# Altium integrated library Wuerth Elektronik SMD Power Choke.IntLib: 844 symbols (part 2 of 9)
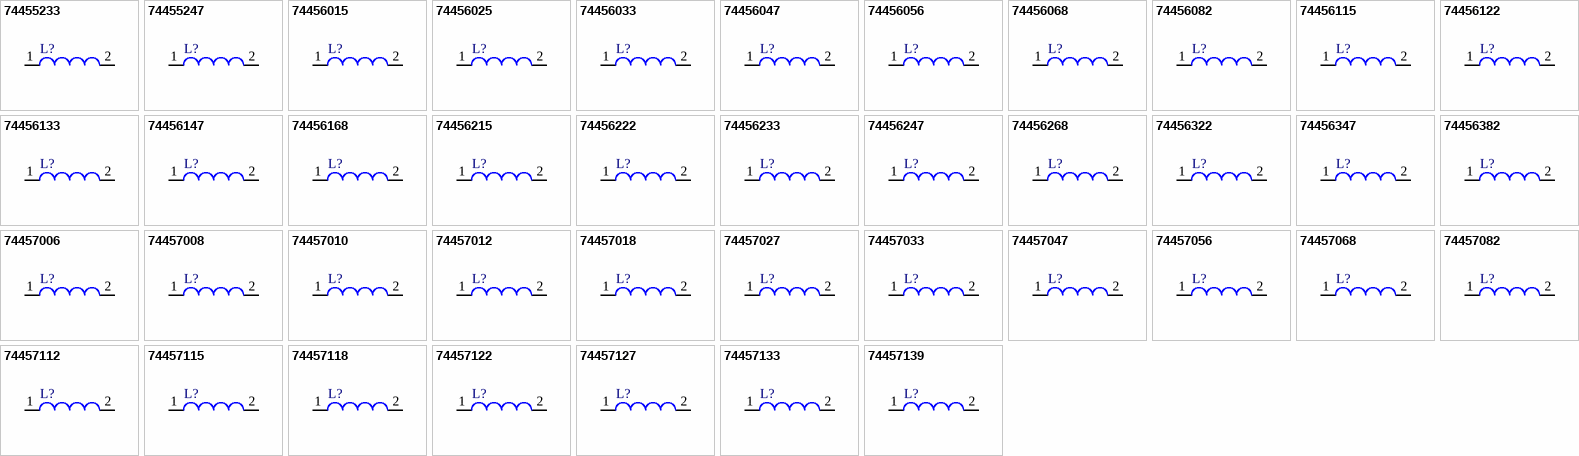
[diagram p23: symbols 74455233 to 74457139]

## 74456222
designator L?
SMD-Power Inductor WE-PD4, L = 220 µH; Inductance: 220 µH; DatasheetVersion: ver 2, Sep-2006; PackageVersion: 2006; PackageReference: WE-PD4-L; PackageDescription: SMD Inductor, 2-Leads, Body 12.7 x 10.0 mm; ComponentLink1Description: Manufacturer URL; ComponentLink1URL: http://www.we-online.com; ComponentLink2Description: Datasheet; ComponentLink2URL: http://www.we-online.de/katalog/media/pdf/74456222.pdf
footprint WE-PD4-L (SMD Inductor, 2-Leads, Body 12.7x10.0x5.3 mm)
pins: 1, 2

## 74456233
designator L?
SMD-Power Inductor WE-PD4, L = 330 µH; Inductance: 330 µH; DatasheetVersion: ver 2, Sep-2006; PackageVersion: 2006; PackageReference: WE-PD4-L; PackageDescription: SMD Inductor, 2-Leads, Body 12.7 x 10.0 mm; ComponentLink1Description: Manufacturer URL; ComponentLink1URL: http://www.we-online.com; ComponentLink2Description: Datasheet; ComponentLink2URL: http://www.we-online.de/katalog/media/pdf/74456233.pdf
footprint WE-PD4-L (SMD Inductor, 2-Leads, Body 12.7x10.0x5.3 mm)
pins: 1, 2

## 74456247
designator L?
SMD-Power Inductor WE-PD4, L = 470 µH; Inductance: 470 µH; DatasheetVersion: ver 2, Sep-2006; PackageVersion: 2006; PackageReference: WE-PD4-L; PackageDescription: SMD Inductor, 2-Leads, Body 12.7 x 10.0 mm; ComponentLink1Description: Manufacturer URL; ComponentLink1URL: http://www.we-online.com; ComponentLink2Description: Datasheet; ComponentLink2URL: http://www.we-online.de/katalog/media/pdf/74456247.pdf
footprint WE-PD4-L (SMD Inductor, 2-Leads, Body 12.7x10.0x5.3 mm)
pins: 1, 2

## 74456268
designator L?
SMD-Power Inductor WE-PD4, L = 680 µH; Inductance: 680 µH; DatasheetVersion: ver 2, Sep-2006; PackageVersion: 2006; PackageReference: WE-PD4-L; PackageDescription: SMD Inductor, 2-Leads, Body 12.7 x 10.0 mm; ComponentLink1Description: Manufacturer URL; ComponentLink1URL: http://www.we-online.com; ComponentLink2Description: Datasheet; ComponentLink2URL: http://www.we-online.de/katalog/media/pdf/74456268.pdf
footprint WE-PD4-L (SMD Inductor, 2-Leads, Body 12.7x10.0x5.3 mm)
pins: 1, 2

## 74456322
designator L?
SMD-Power Inductor WE-PD4, L = 2200 µH; Inductance: 2200 µH; DatasheetVersion: ver 2, Sep-2006; PackageVersion: 2006; PackageReference: WE-PD4-L; PackageDescription: SMD Inductor, 2-Leads, Body 12.7 x 10.0 mm; ComponentLink1Description: Manufacturer URL; ComponentLink1URL: http://www.we-online.com; ComponentLink2Description: Datasheet; ComponentLink2URL: http://www.we-online.de/katalog/media/pdf/74456322.pdf
footprint WE-PD4-L (SMD Inductor, 2-Leads, Body 12.7x10.0x5.3 mm)
pins: 1, 2

## 74456347
designator L?
SMD-Power Inductor WE-PD4, L = 4700 µH; Inductance: 4700 µH; DatasheetVersion: ver 2, Sep-2006; PackageVersion: 2006; PackageReference: WE-PD4-L; PackageDescription: SMD Inductor, 2-Leads, Body 12.7 x 10.0 mm; ComponentLink1Description: Manufacturer URL; ComponentLink1URL: http://www.we-online.com; ComponentLink2Description: Datasheet; ComponentLink2URL: http://www.we-online.de/katalog/media/pdf/74456347.pdf
footprint WE-PD4-L (SMD Inductor, 2-Leads, Body 12.7x10.0x5.3 mm)
pins: 1, 2

## 74456382
designator L?
SMD-Power Inductor WE-PD4, L = 8200 µH; Inductance: 8200 µH; DatasheetVersion: ver 2, Sep-2006; PackageVersion: 2006; PackageReference: WE-PD4-L; PackageDescription: SMD Inductor, 2-Leads, Body 12.7 x 10.0 mm; ComponentLink1Description: Manufacturer URL; ComponentLink1URL: http://www.we-online.com; ComponentLink2Description: Datasheet; ComponentLink2URL: http://www.we-online.de/katalog/media/pdf/74456382.pdf
footprint WE-PD4-L (SMD Inductor, 2-Leads, Body 12.7x10.0x5.3 mm)
pins: 1, 2

## 74457006
designator L?
SMD-Power Inductor WE-PD4, L = 0.47 µH; Inductance: 0.47 µH; DatasheetVersion: ver 1, Oct-2004; PackageVersion: 2004; PackageReference: WE-PD4-XL; PackageDescription: SMD Inductor, 2-Leads, Body 22.0 x 15.0 mm; ComponentLink1Description: Manufacturer URL; ComponentLink1URL: http://www.we-online.com; ComponentLink2Description: Datasheet; ComponentLink2URL: http://www.we-online.de/katalog/media/pdf/74457006.pdf
footprint WE-PD4-XL (SMD Inductor, 2-Leads, Body 22.0x15.0x7.8 mm)
pins: 1, 2

## 74457008
designator L?
SMD-Power Inductor WE-PD4, L = 0.80 µH; Inductance: 0.80 µH; DatasheetVersion: ver 1, Oct-2004; PackageVersion: 2004; PackageReference: WE-PD4-XL; PackageDescription: SMD Inductor, 2-Leads, Body 22.0 x 15.0 mm; ComponentLink1Description: Manufacturer URL; ComponentLink1URL: http://www.we-online.com; ComponentLink2Description: Datasheet; ComponentLink2URL: http://www.we-online.de/katalog/media/pdf/74457008.pdf
footprint WE-PD4-XL (SMD Inductor, 2-Leads, Body 22.0x15.0x7.8 mm)
pins: 1, 2

## 74457010
designator L?
SMD-Power Inductor WE-PD4, L = 1.00 µH; Inductance: 1.00 µH; DatasheetVersion: ver 1, Oct-2004; PackageVersion: 2004; PackageReference: WE-PD4-XL; PackageDescription: SMD Inductor, 2-Leads, Body 22.0 x 15.0 mm; ComponentLink1Description: Manufacturer URL; ComponentLink1URL: http://www.we-online.com; ComponentLink2Description: Datasheet; ComponentLink2URL: http://www.we-online.de/katalog/media/pdf/74457010.pdf
footprint WE-PD4-XL (SMD Inductor, 2-Leads, Body 22.0x15.0x7.8 mm)
pins: 1, 2

## 74457012
designator L?
SMD-Power Inductor WE-PD4, L = 1.20 µH; Inductance: 1.20 µH; DatasheetVersion: ver 1, Oct-2004; PackageVersion: 2004; PackageReference: WE-PD4-XL; PackageDescription: SMD Inductor, 2-Leads, Body 22.0 x 15.0 mm; ComponentLink1Description: Manufacturer URL; ComponentLink1URL: http://www.we-online.com; ComponentLink2Description: Datasheet; ComponentLink2URL: http://www.we-online.de/katalog/media/pdf/74457012.pdf
footprint WE-PD4-XL (SMD Inductor, 2-Leads, Body 22.0x15.0x7.8 mm)
pins: 1, 2

## 74457018
designator L?
SMD-Power Inductor WE-PD4, L = 1.80 µH; Inductance: 1.80 µH; DatasheetVersion: ver 1, Oct-2004; PackageVersion: 2004; PackageReference: WE-PD4-XL; PackageDescription: SMD Inductor, 2-Leads, Body 22.0 x 15.0 mm; ComponentLink1Description: Manufacturer URL; ComponentLink1URL: http://www.we-online.com; ComponentLink2Description: Datasheet; ComponentLink2URL: http://www.we-online.de/katalog/media/pdf/74457018.pdf
footprint WE-PD4-XL (SMD Inductor, 2-Leads, Body 22.0x15.0x7.8 mm)
pins: 1, 2

## 74457027
designator L?
SMD-Power Inductor WE-PD4, L = 2.70 µH; Inductance: 2.70 µH; DatasheetVersion: ver 1, Oct-2004; PackageVersion: 2004; PackageReference: WE-PD4-XL; PackageDescription: SMD Inductor, 2-Leads, Body 22.0 x 15.0 mm; ComponentLink1Description: Manufacturer URL; ComponentLink1URL: http://www.we-online.com; ComponentLink2Description: Datasheet; ComponentLink2URL: http://www.we-online.de/katalog/media/pdf/74457027.pdf
footprint WE-PD4-XL (SMD Inductor, 2-Leads, Body 22.0x15.0x7.8 mm)
pins: 1, 2

## 74457033
designator L?
SMD-Power Inductor WE-PD4, L = 3.30 µH; Inductance: 3.30 µH; DatasheetVersion: ver 1, Oct-2004; PackageVersion: 2004; PackageReference: WE-PD4-XL; PackageDescription: SMD Inductor, 2-Leads, Body 22.0 x 15.0 mm; ComponentLink1Description: Manufacturer URL; ComponentLink1URL: http://www.we-online.com; ComponentLink2Description: Datasheet; ComponentLink2URL: http://www.we-online.de/katalog/media/pdf/74457033.pdf
footprint WE-PD4-XL (SMD Inductor, 2-Leads, Body 22.0x15.0x7.8 mm)
pins: 1, 2

## 74457047
designator L?
SMD-Power Inductor WE-PD4, L = 4.70 µH; Inductance: 4.70 µH; DatasheetVersion: ver 1, Oct-2004; PackageVersion: 2004; PackageReference: WE-PD4-XL; PackageDescription: SMD Inductor, 2-Leads, Body 22.0 x 15.0 mm; ComponentLink1Description: Manufacturer URL; ComponentLink1URL: http://www.we-online.com; ComponentLink2Description: Datasheet; ComponentLink2URL: http://www.we-online.de/katalog/media/pdf/74457047.pdf
footprint WE-PD4-XL (SMD Inductor, 2-Leads, Body 22.0x15.0x7.8 mm)
pins: 1, 2

## 74457056
designator L?
SMD-Power Inductor WE-PD4, L = 5.60 µH; Inductance: 5.60 µH; DatasheetVersion: ver 1, Oct-2004; PackageVersion: 2004; PackageReference: WE-PD4-XL; PackageDescription: SMD Inductor, 2-Leads, Body 22.0 x 15.0 mm; ComponentLink1Description: Manufacturer URL; ComponentLink1URL: http://www.we-online.com; ComponentLink2Description: Datasheet; ComponentLink2URL: http://www.we-online.de/katalog/media/pdf/74457056.pdf
footprint WE-PD4-XL (SMD Inductor, 2-Leads, Body 22.0x15.0x7.8 mm)
pins: 1, 2

## 74457068
designator L?
SMD-Power Inductor WE-PD4, L = 6.80 µH; Inductance: 6.80 µH; DatasheetVersion: ver 1, Oct-2004; PackageVersion: 2004; PackageReference: WE-PD4-XL; PackageDescription: SMD Inductor, 2-Leads, Body 22.0 x 15.0 mm; ComponentLink1Description: Manufacturer URL; ComponentLink1URL: http://www.we-online.com; ComponentLink2Description: Datasheet; ComponentLink2URL: http://www.we-online.de/katalog/media/pdf/74457068.pdf
footprint WE-PD4-XL (SMD Inductor, 2-Leads, Body 22.0x15.0x7.8 mm)
pins: 1, 2

## 74457082
designator L?
SMD-Power Inductor WE-PD4, L = 8.20 µH; Inductance: 8.20 µH; DatasheetVersion: ver 1, Oct-2004; PackageVersion: 2004; PackageReference: WE-PD4-XL; PackageDescription: SMD Inductor, 2-Leads, Body 22.0 x 15.0 mm; ComponentLink1Description: Manufacturer URL; ComponentLink1URL: http://www.we-online.com; ComponentLink2Description: Datasheet; ComponentLink2URL: http://www.we-online.de/katalog/media/pdf/74457082.pdf
footprint WE-PD4-XL (SMD Inductor, 2-Leads, Body 22.0x15.0x7.8 mm)
pins: 1, 2

## 74457112
designator L?
SMD-Power Inductor WE-PD4, L = 12.0 µH; Inductance: 12.0 µH; DatasheetVersion: ver 1, Oct-2004; PackageVersion: 2004; PackageReference: WE-PD4-XL; PackageDescription: SMD Inductor, 2-Leads, Body 22.0 x 15.0 mm; ComponentLink1Description: Manufacturer URL; ComponentLink1URL: http://www.we-online.com; ComponentLink2Description: Datasheet; ComponentLink2URL: http://www.we-online.de/katalog/media/pdf/74457112.pdf
footprint WE-PD4-XL (SMD Inductor, 2-Leads, Body 22.0x15.0x7.8 mm)
pins: 1, 2

## 74457115
designator L?
SMD-Power Inductor WE-PD4, L = 15.0 µH; Inductance: 15.0 µH; DatasheetVersion: ver 1, Oct-2004; PackageVersion: 2004; PackageReference: WE-PD4-XL; PackageDescription: SMD Inductor, 2-Leads, Body 22.0 x 15.0 mm; ComponentLink1Description: Manufacturer URL; ComponentLink1URL: http://www.we-online.com; ComponentLink2Description: Datasheet; ComponentLink2URL: http://www.we-online.de/katalog/media/pdf/74457115.pdf
footprint WE-PD4-XL (SMD Inductor, 2-Leads, Body 22.0x15.0x7.8 mm)
pins: 1, 2

## 74457118
designator L?
SMD-Power Inductor WE-PD4, L = 18.0 µH; Inductance: 18.0 µH; DatasheetVersion: ver 1, Oct-2004; PackageVersion: 2004; PackageReference: WE-PD4-XL; PackageDescription: SMD Inductor, 2-Leads, Body 22.0 x 15.0 mm; ComponentLink1Description: Manufacturer URL; ComponentLink1URL: http://www.we-online.com; ComponentLink2Description: Datasheet; ComponentLink2URL: http://www.we-online.de/katalog/media/pdf/74457118.pdf
footprint WE-PD4-XL (SMD Inductor, 2-Leads, Body 22.0x15.0x7.8 mm)
pins: 1, 2

## 74457122
designator L?
SMD-Power Inductor WE-PD4, L = 22.0 µH; Inductance: 22.0 µH; DatasheetVersion: ver 1, Oct-2004; PackageVersion: 2004; PackageReference: WE-PD4-XL; PackageDescription: SMD Inductor, 2-Leads, Body 22.0 x 15.0 mm; ComponentLink1Description: Manufacturer URL; ComponentLink1URL: http://www.we-online.com; ComponentLink2Description: Datasheet; ComponentLink2URL: http://www.we-online.de/katalog/media/pdf/74457122.pdf
footprint WE-PD4-XL (SMD Inductor, 2-Leads, Body 22.0x15.0x7.8 mm)
pins: 1, 2

## 74457127
designator L?
SMD-Power Inductor WE-PD4, L = 27.0 µH; Inductance: 27.0 µH; DatasheetVersion: ver 1, Oct-2004; PackageVersion: 2004; PackageReference: WE-PD4-XL; PackageDescription: SMD Inductor, 2-Leads, Body 22.0 x 15.0 mm; ComponentLink1Description: Manufacturer URL; ComponentLink1URL: http://www.we-online.com; ComponentLink2Description: Datasheet; ComponentLink2URL: http://www.we-online.de/katalog/media/pdf/74457127.pdf
footprint WE-PD4-XL (SMD Inductor, 2-Leads, Body 22.0x15.0x7.8 mm)
pins: 1, 2

## 74457133
designator L?
SMD-Power Inductor WE-PD4, L = 33.0 µH; Inductance: 33.0 µH; DatasheetVersion: ver 1, Oct-2004; PackageVersion: 2004; PackageReference: WE-PD4-XL; PackageDescription: SMD Inductor, 2-Leads, Body 22.0 x 15.0 mm; ComponentLink1Description: Manufacturer URL; ComponentLink1URL: http://www.we-online.com; ComponentLink2Description: Datasheet; ComponentLink2URL: http://www.we-online.de/katalog/media/pdf/74457133.pdf
footprint WE-PD4-XL (SMD Inductor, 2-Leads, Body 22.0x15.0x7.8 mm)
pins: 1, 2

## 74457139
designator L?
SMD-Power Inductor WE-PD4, L = 39.0 µH; Inductance: 39.0 µH; DatasheetVersion: ver 1, Oct-2004; PackageVersion: 2004; PackageReference: WE-PD4-XL; PackageDescription: SMD Inductor, 2-Leads, Body 22.0 x 15.0 mm; ComponentLink1Description: Manufacturer URL; ComponentLink1URL: http://www.we-online.com; ComponentLink2Description: Datasheet; ComponentLink2URL: http://www.we-online.de/katalog/media/pdf/74457139.pdf
footprint WE-PD4-XL (SMD Inductor, 2-Leads, Body 22.0x15.0x7.8 mm)
pins: 1, 2

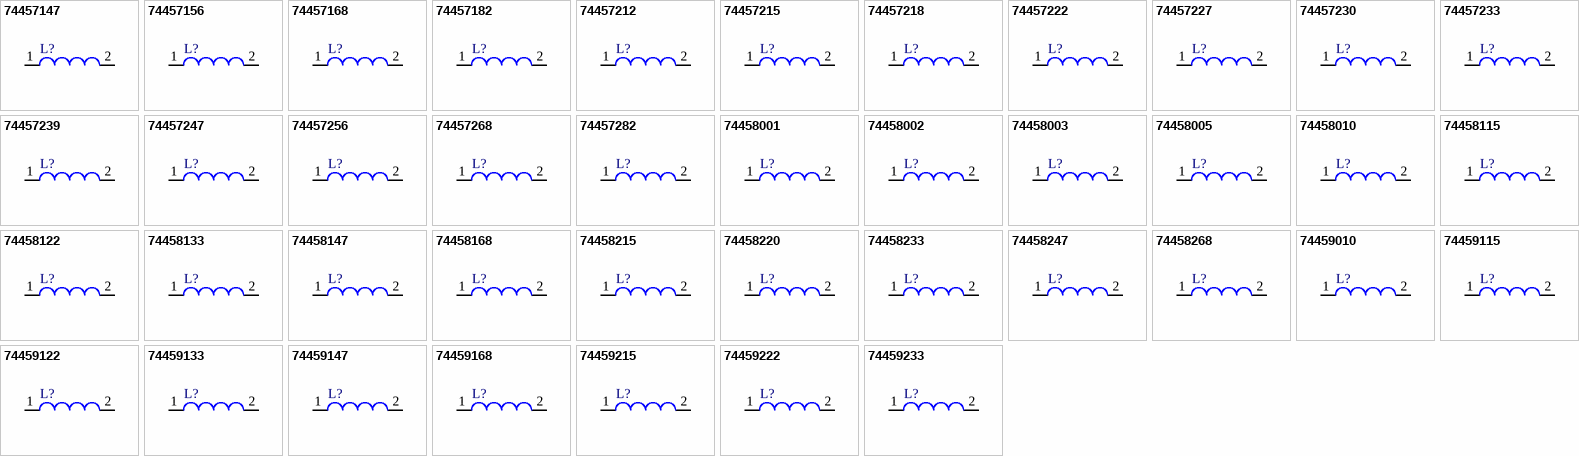
[diagram p3: symbols 74457147 to 74459233]

## 74457147
designator L?
SMD-Power Inductor WE-PD4, L = 47.0 µH; Inductance: 47.0 µH; DatasheetVersion: ver 1, Oct-2004; PackageVersion: 2004; PackageReference: WE-PD4-XL; PackageDescription: SMD Inductor, 2-Leads, Body 22.0 x 15.0 mm; ComponentLink1Description: Manufacturer URL; ComponentLink1URL: http://www.we-online.com; ComponentLink2Description: Datasheet; ComponentLink2URL: http://www.we-online.de/katalog/media/pdf/74457147.pdf
footprint WE-PD4-XL (SMD Inductor, 2-Leads, Body 22.0x15.0x7.8 mm)
pins: 1, 2

## 74457156
designator L?
SMD-Power Inductor WE-PD4, L = 56.0 µH; Inductance: 56.0 µH; DatasheetVersion: ver 1, Oct-2004; PackageVersion: 2004; PackageReference: WE-PD4-XL; PackageDescription: SMD Inductor, 2-Leads, Body 22.0 x 15.0 mm; ComponentLink1Description: Manufacturer URL; ComponentLink1URL: http://www.we-online.com; ComponentLink2Description: Datasheet; ComponentLink2URL: http://www.we-online.de/katalog/media/pdf/74457156.pdf
footprint WE-PD4-XL (SMD Inductor, 2-Leads, Body 22.0x15.0x7.8 mm)
pins: 1, 2

## 74457168
designator L?
SMD-Power Inductor WE-PD4, L = 68.0 µH; Inductance: 68.0 µH; DatasheetVersion: ver 1, Oct-2004; PackageVersion: 2004; PackageReference: WE-PD4-XL; PackageDescription: SMD Inductor, 2-Leads, Body 22.0 x 15.0 mm; ComponentLink1Description: Manufacturer URL; ComponentLink1URL: http://www.we-online.com; ComponentLink2Description: Datasheet; ComponentLink2URL: http://www.we-online.de/katalog/media/pdf/74457168.pdf
footprint WE-PD4-XL (SMD Inductor, 2-Leads, Body 22.0x15.0x7.8 mm)
pins: 1, 2

## 74457182
designator L?
SMD-Power Inductor WE-PD4, L = 82.0 µH; Inductance: 82.0 µH; DatasheetVersion: ver 1, Oct-2004; PackageVersion: 2004; PackageReference: WE-PD4-XL; PackageDescription: SMD Inductor, 2-Leads, Body 22.0 x 15.0 mm; ComponentLink1Description: Manufacturer URL; ComponentLink1URL: http://www.we-online.com; ComponentLink2Description: Datasheet; ComponentLink2URL: http://www.we-online.de/katalog/media/pdf/74457182.pdf
footprint WE-PD4-XL (SMD Inductor, 2-Leads, Body 22.0x15.0x7.8 mm)
pins: 1, 2

## 74457212
designator L?
SMD-Power Inductor WE-PD4, L = 120 µH; Inductance: 120 µH; DatasheetVersion: ver 1, Oct-2004; PackageVersion: 2004; PackageReference: WE-PD4-XL; PackageDescription: SMD Inductor, 2-Leads, Body 22.0 x 15.0 mm; ComponentLink1Description: Manufacturer URL; ComponentLink1URL: http://www.we-online.com; ComponentLink2Description: Datasheet; ComponentLink2URL: http://www.we-online.de/katalog/media/pdf/74457212.pdf
footprint WE-PD4-XL (SMD Inductor, 2-Leads, Body 22.0x15.0x7.8 mm)
pins: 1, 2

## 74457215
designator L?
SMD-Power Inductor WE-PD4, L = 150 µH; Inductance: 150 µH; DatasheetVersion: ver 1, Oct-2004; PackageVersion: 2004; PackageReference: WE-PD4-XL; PackageDescription: SMD Inductor, 2-Leads, Body 22.0 x 15.0 mm; ComponentLink1Description: Manufacturer URL; ComponentLink1URL: http://www.we-online.com; ComponentLink2Description: Datasheet; ComponentLink2URL: http://www.we-online.de/katalog/media/pdf/74457215.pdf
footprint WE-PD4-XL (SMD Inductor, 2-Leads, Body 22.0x15.0x7.8 mm)
pins: 1, 2

## 74457218
designator L?
SMD-Power Inductor WE-PD4, L = 180 µH; Inductance: 180 µH; DatasheetVersion: ver 1, Oct-2004; PackageVersion: 2004; PackageReference: WE-PD4-XL; PackageDescription: SMD Inductor, 2-Leads, Body 22.0 x 15.0 mm; ComponentLink1Description: Manufacturer URL; ComponentLink1URL: http://www.we-online.com; ComponentLink2Description: Datasheet; ComponentLink2URL: http://www.we-online.de/katalog/media/pdf/74457218.pdf
footprint WE-PD4-XL (SMD Inductor, 2-Leads, Body 22.0x15.0x7.8 mm)
pins: 1, 2

## 74457222
designator L?
SMD-Power Inductor WE-PD4, L = 220 µH; Inductance: 220 µH; DatasheetVersion: ver 1, Oct-2004; PackageVersion: 2004; PackageReference: WE-PD4-XL; PackageDescription: SMD Inductor, 2-Leads, Body 22.0 x 15.0 mm; ComponentLink1Description: Manufacturer URL; ComponentLink1URL: http://www.we-online.com; ComponentLink2Description: Datasheet; ComponentLink2URL: http://www.we-online.de/katalog/media/pdf/74457222.pdf
footprint WE-PD4-XL (SMD Inductor, 2-Leads, Body 22.0x15.0x7.8 mm)
pins: 1, 2

## 74457227
designator L?
SMD-Power Inductor WE-PD4, L = 270 µH; Inductance: 270 µH; DatasheetVersion: ver 1, Oct-2004; PackageVersion: 2004; PackageReference: WE-PD4-XL; PackageDescription: SMD Inductor, 2-Leads, Body 22.0 x 15.0 mm; ComponentLink1Description: Manufacturer URL; ComponentLink1URL: http://www.we-online.com; ComponentLink2Description: Datasheet; ComponentLink2URL: http://www.we-online.de/katalog/media/pdf/74457227.pdf
footprint WE-PD4-XL (SMD Inductor, 2-Leads, Body 22.0x15.0x7.8 mm)
pins: 1, 2

## 74457230
designator L?
SMD-Power Inductor WE-PD4, L = 1000 µH; Inductance: 1000 µH; DatasheetVersion: ver 1, Oct-2004; PackageVersion: 2004; PackageReference: WE-PD4-XL; PackageDescription: SMD Inductor, 2-Leads, Body 22.0 x 15.0 mm; ComponentLink1Description: Manufacturer URL; ComponentLink1URL: http://www.we-online.com; ComponentLink2Description: Datasheet; ComponentLink2URL: http://www.we-online.de/katalog/media/pdf/74457230.pdf
footprint WE-PD4-XL (SMD Inductor, 2-Leads, Body 22.0x15.0x7.8 mm)
pins: 1, 2

## 74457233
designator L?
SMD-Power Inductor WE-PD4, L = 330 µH; Inductance: 330 µH; DatasheetVersion: ver 1, Oct-2004; PackageVersion: 2004; PackageReference: WE-PD4-XL; PackageDescription: SMD Inductor, 2-Leads, Body 22.0 x 15.0 mm; ComponentLink1Description: Manufacturer URL; ComponentLink1URL: http://www.we-online.com; ComponentLink2Description: Datasheet; ComponentLink2URL: http://www.we-online.de/katalog/media/pdf/74457233.pdf
footprint WE-PD4-XL (SMD Inductor, 2-Leads, Body 22.0x15.0x7.8 mm)
pins: 1, 2

## 74457239
designator L?
SMD-Power Inductor WE-PD4, L = 390 µH; Inductance: 390 µH; DatasheetVersion: ver 1, Oct-2004; PackageVersion: 2004; PackageReference: WE-PD4-XL; PackageDescription: SMD Inductor, 2-Leads, Body 22.0 x 15.0 mm; ComponentLink1Description: Manufacturer URL; ComponentLink1URL: http://www.we-online.com; ComponentLink2Description: Datasheet; ComponentLink2URL: http://www.we-online.de/katalog/media/pdf/74457239.pdf
footprint WE-PD4-XL (SMD Inductor, 2-Leads, Body 22.0x15.0x7.8 mm)
pins: 1, 2

## 74457247
designator L?
SMD-Power Inductor WE-PD4, L = 470 µH; Inductance: 470 µH; DatasheetVersion: ver 1, Oct-2004; PackageVersion: 2004; PackageReference: WE-PD4-XL; PackageDescription: SMD Inductor, 2-Leads, Body 22.0 x 15.0 mm; ComponentLink1Description: Manufacturer URL; ComponentLink1URL: http://www.we-online.com; ComponentLink2Description: Datasheet; ComponentLink2URL: http://www.we-online.de/katalog/media/pdf/74457247.pdf
footprint WE-PD4-XL (SMD Inductor, 2-Leads, Body 22.0x15.0x7.8 mm)
pins: 1, 2

## 74457256
designator L?
SMD-Power Inductor WE-PD4, L = 560 µH; Inductance: 560 µH; DatasheetVersion: ver 1, Oct-2004; PackageVersion: 2004; PackageReference: WE-PD4-XL; PackageDescription: SMD Inductor, 2-Leads, Body 22.0 x 15.0 mm; ComponentLink1Description: Manufacturer URL; ComponentLink1URL: http://www.we-online.com; ComponentLink2Description: Datasheet; ComponentLink2URL: http://www.we-online.de/katalog/media/pdf/74457256.pdf
footprint WE-PD4-XL (SMD Inductor, 2-Leads, Body 22.0x15.0x7.8 mm)
pins: 1, 2

## 74457268
designator L?
SMD-Power Inductor WE-PD4, L = 680 µH; Inductance: 680 µH; DatasheetVersion: ver 1, Oct-2004; PackageVersion: 2004; PackageReference: WE-PD4-XL; PackageDescription: SMD Inductor, 2-Leads, Body 22.0 x 15.0 mm; ComponentLink1Description: Manufacturer URL; ComponentLink1URL: http://www.we-online.com; ComponentLink2Description: Datasheet; ComponentLink2URL: http://www.we-online.de/katalog/media/pdf/74457268.pdf
footprint WE-PD4-XL (SMD Inductor, 2-Leads, Body 22.0x15.0x7.8 mm)
pins: 1, 2

## 74457282
designator L?
SMD-Power Inductor WE-PD4, L = 820 µH; Inductance: 820 µH; DatasheetVersion: ver 1, Oct-2004; PackageVersion: 2004; PackageReference: WE-PD4-XL; PackageDescription: SMD Inductor, 2-Leads, Body 22.0 x 15.0 mm; ComponentLink1Description: Manufacturer URL; ComponentLink1URL: http://www.we-online.com; ComponentLink2Description: Datasheet; ComponentLink2URL: http://www.we-online.de/katalog/media/pdf/74457282.pdf
footprint WE-PD4-XL (SMD Inductor, 2-Leads, Body 22.0x15.0x7.8 mm)
pins: 1, 2

## 74458001
designator L?
SMD-Power Inductor WE-PD4, L = 1.00 µH; Inductance: 1.00 µH; DatasheetVersion: ver 1, Oct-2004; PackageVersion: 2004; PackageReference: WE-PD4-X; PackageDescription: SMD Inductor, 2-Leads, Body 18.54 x 15.24 mm; ComponentLink1Description: Manufacturer URL; ComponentLink1URL: http://www.we-online.com; ComponentLink2Description: Datasheet; ComponentLink2URL: http://www.we-online.de/katalog/media/pdf/74458001.pdf
footprint WE-PD4-X (SMD Inductor, 2-Leads, Body 18.54x15.24x7.11 mm)
pins: 1, 2

## 74458002
designator L?
SMD-Power Inductor WE-PD4, L = 2.20 µH; Inductance: 2.20 µH; DatasheetVersion: ver 1, Oct-2004; PackageVersion: 2004; PackageReference: WE-PD4-X; PackageDescription: SMD Inductor, 2-Leads, Body 18.54 x 15.24 mm; ComponentLink1Description: Manufacturer URL; ComponentLink1URL: http://www.we-online.com; ComponentLink2Description: Datasheet; ComponentLink2URL: http://www.we-online.de/katalog/media/pdf/74458002.pdf
footprint WE-PD4-X (SMD Inductor, 2-Leads, Body 18.54x15.24x7.11 mm)
pins: 1, 2

## 74458003
designator L?
SMD-Power Inductor WE-PD4, L = 3.30 µH; Inductance: 3.30 µH; DatasheetVersion: ver 1, Oct-2004; PackageVersion: 2004; PackageReference: WE-PD4-X; PackageDescription: SMD Inductor, 2-Leads, Body 18.54 x 15.24 mm; ComponentLink1Description: Manufacturer URL; ComponentLink1URL: http://www.we-online.com; ComponentLink2Description: Datasheet; ComponentLink2URL: http://www.we-online.de/katalog/media/pdf/74458003.pdf
footprint WE-PD4-X (SMD Inductor, 2-Leads, Body 18.54x15.24x7.11 mm)
pins: 1, 2

## 74458005
designator L?
SMD-Power Inductor WE-PD4, L = 5.60 µH; Inductance: 5.60 µH; DatasheetVersion: ver 1, Oct-2004; PackageVersion: 2004; PackageReference: WE-PD4-X; PackageDescription: SMD Inductor, 2-Leads, Body 18.54 x 15.24 mm; ComponentLink1Description: Manufacturer URL; ComponentLink1URL: http://www.we-online.com; ComponentLink2Description: Datasheet; ComponentLink2URL: http://www.we-online.de/katalog/media/pdf/74458005.pdf
footprint WE-PD4-X (SMD Inductor, 2-Leads, Body 18.54x15.24x7.11 mm)
pins: 1, 2

## 74458010
designator L?
SMD-Power Inductor WE-PD4, L = 10.0 µH; Inductance: 10.0 µH; DatasheetVersion: ver 1, Oct-2004; PackageVersion: 2004; PackageReference: WE-PD4-X; PackageDescription: SMD Inductor, 2-Leads, Body 18.54 x 15.24 mm; ComponentLink1Description: Manufacturer URL; ComponentLink1URL: http://www.we-online.com; ComponentLink2Description: Datasheet; ComponentLink2URL: http://www.we-online.de/katalog/media/pdf/74458010.pdf
footprint WE-PD4-X (SMD Inductor, 2-Leads, Body 18.54x15.24x7.11 mm)
pins: 1, 2

## 74458115
designator L?
SMD-Power Inductor WE-PD4, L = 15.0 µH; Inductance: 15.0 µH; DatasheetVersion: ver 1, Oct-2004; PackageVersion: 2004; PackageReference: WE-PD4-X; PackageDescription: SMD Inductor, 2-Leads, Body 18.54 x 15.24 mm; ComponentLink1Description: Manufacturer URL; ComponentLink1URL: http://www.we-online.com; ComponentLink2Description: Datasheet; ComponentLink2URL: http://www.we-online.de/katalog/media/pdf/74458115.pdf
footprint WE-PD4-X (SMD Inductor, 2-Leads, Body 18.54x15.24x7.11 mm)
pins: 1, 2

## 74458122
designator L?
SMD-Power Inductor WE-PD4, L = 22.0 µH; Inductance: 22.0 µH; DatasheetVersion: ver 1, Oct-2004; PackageVersion: 2004; PackageReference: WE-PD4-X; PackageDescription: SMD Inductor, 2-Leads, Body 18.54 x 15.24 mm; ComponentLink1Description: Manufacturer URL; ComponentLink1URL: http://www.we-online.com; ComponentLink2Description: Datasheet; ComponentLink2URL: http://www.we-online.de/katalog/media/pdf/74458122.pdf
footprint WE-PD4-X (SMD Inductor, 2-Leads, Body 18.54x15.24x7.11 mm)
pins: 1, 2

## 74458133
designator L?
SMD-Power Inductor WE-PD4, L = 33.0 µH; Inductance: 33.0 µH; DatasheetVersion: ver 1, Oct-2004; PackageVersion: 2004; PackageReference: WE-PD4-X; PackageDescription: SMD Inductor, 2-Leads, Body 18.54 x 15.24 mm; ComponentLink1Description: Manufacturer URL; ComponentLink1URL: http://www.we-online.com; ComponentLink2Description: Datasheet; ComponentLink2URL: http://www.we-online.de/katalog/media/pdf/74458133.pdf
footprint WE-PD4-X (SMD Inductor, 2-Leads, Body 18.54x15.24x7.11 mm)
pins: 1, 2

## 74458147
designator L?
SMD-Power Inductor WE-PD4, L = 47.0 µH; Inductance: 47.0 µH; DatasheetVersion: ver 1, Oct-2004; PackageVersion: 2004; PackageReference: WE-PD4-X; PackageDescription: SMD Inductor, 2-Leads, Body 18.54 x 15.24 mm; ComponentLink1Description: Manufacturer URL; ComponentLink1URL: http://www.we-online.com; ComponentLink2Description: Datasheet; ComponentLink2URL: http://www.we-online.de/katalog/media/pdf/74458147.pdf
footprint WE-PD4-X (SMD Inductor, 2-Leads, Body 18.54x15.24x7.11 mm)
pins: 1, 2

## 74458168
designator L?
SMD-Power Inductor WE-PD4, L = 68.0 µH; Inductance: 68.0 µH; DatasheetVersion: ver 1, Oct-2004; PackageVersion: 2004; PackageReference: WE-PD4-X; PackageDescription: SMD Inductor, 2-Leads, Body 18.54 x 15.24 mm; ComponentLink1Description: Manufacturer URL; ComponentLink1URL: http://www.we-online.com; ComponentLink2Description: Datasheet; ComponentLink2URL: http://www.we-online.de/katalog/media/pdf/74458168.pdf
footprint WE-PD4-X (SMD Inductor, 2-Leads, Body 18.54x15.24x7.11 mm)
pins: 1, 2

## 74458215
designator L?
SMD-Power Inductor WE-PD4, L = 150 µH; Inductance: 150 µH; DatasheetVersion: ver 1, Oct-2004; PackageVersion: 2004; PackageReference: WE-PD4-X; PackageDescription: SMD Inductor, 2-Leads, Body 18.54 x 15.24 mm; ComponentLink1Description: Manufacturer URL; ComponentLink1URL: http://www.we-online.com; ComponentLink2Description: Datasheet; ComponentLink2URL: http://www.we-online.de/katalog/media/pdf/74458215.pdf
footprint WE-PD4-X (SMD Inductor, 2-Leads, Body 18.54x15.24x7.11 mm)
pins: 1, 2

## 74458220
designator L?
SMD-Power Inductor WE-PD4, L = 220 µH; Inductance: 220 µH; DatasheetVersion: ver 1, Oct-2004; PackageVersion: 2004; PackageReference: WE-PD4-X; PackageDescription: SMD Inductor, 2-Leads, Body 18.54 x 15.24 mm; ComponentLink1Description: Manufacturer URL; ComponentLink1URL: http://www.we-online.com; ComponentLink2Description: Datasheet; ComponentLink2URL: http://www.we-online.de/katalog/media/pdf/74458220.pdf
footprint WE-PD4-X (SMD Inductor, 2-Leads, Body 18.54x15.24x7.11 mm)
pins: 1, 2

## 74458233
designator L?
SMD-Power Inductor WE-PD4, L = 330 µH; Inductance: 330 µH; DatasheetVersion: ver 1, Oct-2004; PackageVersion: 2004; PackageReference: WE-PD4-X; PackageDescription: SMD Inductor, 2-Leads, Body 18.54 x 15.24 mm; ComponentLink1Description: Manufacturer URL; ComponentLink1URL: http://www.we-online.com; ComponentLink2Description: Datasheet; ComponentLink2URL: http://www.we-online.de/katalog/media/pdf/74458233.pdf
footprint WE-PD4-X (SMD Inductor, 2-Leads, Body 18.54x15.24x7.11 mm)
pins: 1, 2

## 74458247
designator L?
SMD-Power Inductor WE-PD4, L = 470 µH; Inductance: 470 µH; DatasheetVersion: ver 1, Oct-2004; PackageVersion: 2004; PackageReference: WE-PD4-X; PackageDescription: SMD Inductor, 2-Leads, Body 18.54 x 15.24 mm; ComponentLink1Description: Manufacturer URL; ComponentLink1URL: http://www.we-online.com; ComponentLink2Description: Datasheet; ComponentLink2URL: http://www.we-online.de/katalog/media/pdf/74458247.pdf
footprint WE-PD4-X (SMD Inductor, 2-Leads, Body 18.54x15.24x7.11 mm)
pins: 1, 2

## 74458268
designator L?
SMD-Power Inductor WE-PD4, L = 680 µH; Inductance: 680 µH; DatasheetVersion: ver 1, Oct-2004; PackageVersion: 2004; PackageReference: WE-PD4-X; PackageDescription: SMD Inductor, 2-Leads, Body 18.54 x 15.24 mm; ComponentLink1Description: Manufacturer URL; ComponentLink1URL: http://www.we-online.com; ComponentLink2Description: Datasheet; ComponentLink2URL: http://www.we-online.de/katalog/media/pdf/74458268.pdf
footprint WE-PD4-X (SMD Inductor, 2-Leads, Body 18.54x15.24x7.11 mm)
pins: 1, 2

## 74459010
designator L?
SMD Shielded Power Inductor WE-PD3, L = 10.0 µH; Inductance: 10.0 µH; DatasheetVersion: ver 1, Oct-2004; PackageVersion: 2004; PackageReference: WE-PD3-X; PackageDescription: SMD Inductor, 2-Leads, Body 18.54 x 15.24 mm; ComponentLink1Description: Manufacturer URL; ComponentLink1URL: http://www.we-online.com; ComponentLink2Description: Datasheet; ComponentLink2URL: http://www.we-online.de/katalog/media/pdf/74459010.pdf
footprint WE-PD3-X (SMD Inductor, 2-Leads, Body 18.54x15.24x7.62 mm)
pins: 1, 2

## 74459115
designator L?
SMD Shielded Power Inductor WE-PD3, L = 15.0 µH; Inductance: 15.0 µH; DatasheetVersion: ver 1, Oct-2004; PackageVersion: 2004; PackageReference: WE-PD3-X; PackageDescription: SMD Inductor, 2-Leads, Body 18.54 x 15.24 mm; ComponentLink1Description: Manufacturer URL; ComponentLink1URL: http://www.we-online.com; ComponentLink2Description: Datasheet; ComponentLink2URL: http://www.we-online.de/katalog/media/pdf/74459115.pdf
footprint WE-PD3-X (SMD Inductor, 2-Leads, Body 18.54x15.24x7.62 mm)
pins: 1, 2

## 74459122
designator L?
SMD Shielded Power Inductor WE-PD3, L = 22.0 µH; Inductance: 22.0 µH; DatasheetVersion: ver 1, Oct-2004; PackageVersion: 2004; PackageReference: WE-PD3-X; PackageDescription: SMD Inductor, 2-Leads, Body 18.54 x 15.24 mm; ComponentLink1Description: Manufacturer URL; ComponentLink1URL: http://www.we-online.com; ComponentLink2Description: Datasheet; ComponentLink2URL: http://www.we-online.de/katalog/media/pdf/74459122.pdf
footprint WE-PD3-X (SMD Inductor, 2-Leads, Body 18.54x15.24x7.62 mm)
pins: 1, 2

## 74459133
designator L?
SMD Shielded Power Inductor WE-PD3, L = 33.0 µH; Inductance: 33.0 µH; DatasheetVersion: ver 1, Oct-2004; PackageVersion: 2004; PackageReference: WE-PD3-X; PackageDescription: SMD Inductor, 2-Leads, Body 18.54 x 15.24 mm; ComponentLink1Description: Manufacturer URL; ComponentLink1URL: http://www.we-online.com; ComponentLink2Description: Datasheet; ComponentLink2URL: http://www.we-online.de/katalog/media/pdf/74459133.pdf
footprint WE-PD3-X (SMD Inductor, 2-Leads, Body 18.54x15.24x7.62 mm)
pins: 1, 2

## 74459147
designator L?
SMD Shielded Power Inductor WE-PD3, L = 47.0 µH; Inductance: 47.0 µH; DatasheetVersion: ver 1, Oct-2004; PackageVersion: 2004; PackageReference: WE-PD3-X; PackageDescription: SMD Inductor, 2-Leads, Body 18.54 x 15.24 mm; ComponentLink1Description: Manufacturer URL; ComponentLink1URL: http://www.we-online.com; ComponentLink2Description: Datasheet; ComponentLink2URL: http://www.we-online.de/katalog/media/pdf/74459147.pdf
footprint WE-PD3-X (SMD Inductor, 2-Leads, Body 18.54x15.24x7.62 mm)
pins: 1, 2

## 74459168
designator L?
SMD Shielded Power Inductor WE-PD3, L = 68.0 µH; Inductance: 68.0 µH; DatasheetVersion: ver 1, Oct-2004; PackageVersion: 2004; PackageReference: WE-PD3-X; PackageDescription: SMD Inductor, 2-Leads, Body 18.54 x 15.24 mm; ComponentLink1Description: Manufacturer URL; ComponentLink1URL: http://www.we-online.com; ComponentLink2Description: Datasheet; ComponentLink2URL: http://www.we-online.de/katalog/media/pdf/74459168.pdf
footprint WE-PD3-X (SMD Inductor, 2-Leads, Body 18.54x15.24x7.62 mm)
pins: 1, 2

## 74459215
designator L?
SMD Shielded Power Inductor WE-PD3, L = 150 µH; Inductance: 150 µH; DatasheetVersion: ver 1, Oct-2004; PackageVersion: 2004; PackageReference: WE-PD3-X; PackageDescription: SMD Inductor, 2-Leads, Body 18.54 x 15.24 mm; ComponentLink1Description: Manufacturer URL; ComponentLink1URL: http://www.we-online.com; ComponentLink2Description: Datasheet; ComponentLink2URL: http://www.we-online.de/katalog/media/pdf/74459215.pdf
footprint WE-PD3-X (SMD Inductor, 2-Leads, Body 18.54x15.24x7.62 mm)
pins: 1, 2

## 74459222
designator L?
SMD Shielded Power Inductor WE-PD3, L = 220 µH; Inductance: 220 µH; DatasheetVersion: ver 1, Oct-2004; PackageVersion: 2004; PackageReference: WE-PD3-X; PackageDescription: SMD Inductor, 2-Leads, Body 18.54 x 15.24 mm; ComponentLink1Description: Manufacturer URL; ComponentLink1URL: http://www.we-online.com; ComponentLink2Description: Datasheet; ComponentLink2URL: http://www.we-online.de/katalog/media/pdf/74459222.pdf
footprint WE-PD3-X (SMD Inductor, 2-Leads, Body 18.54x15.24x7.62 mm)
pins: 1, 2

## 74459233
designator L?
SMD Shielded Power Inductor WE-PD3, L = 330 µH; Inductance: 330 µH; DatasheetVersion: ver 1, Oct-2004; PackageVersion: 2004; PackageReference: WE-PD3-X; PackageDescription: SMD Inductor, 2-Leads, Body 18.54 x 15.24 mm; ComponentLink1Description: Manufacturer URL; ComponentLink1URL: http://www.we-online.com; ComponentLink2Description: Datasheet; ComponentLink2URL: http://www.we-online.de/katalog/media/pdf/74459233.pdf
footprint WE-PD3-X (SMD Inductor, 2-Leads, Body 18.54x15.24x7.62 mm)
pins: 1, 2

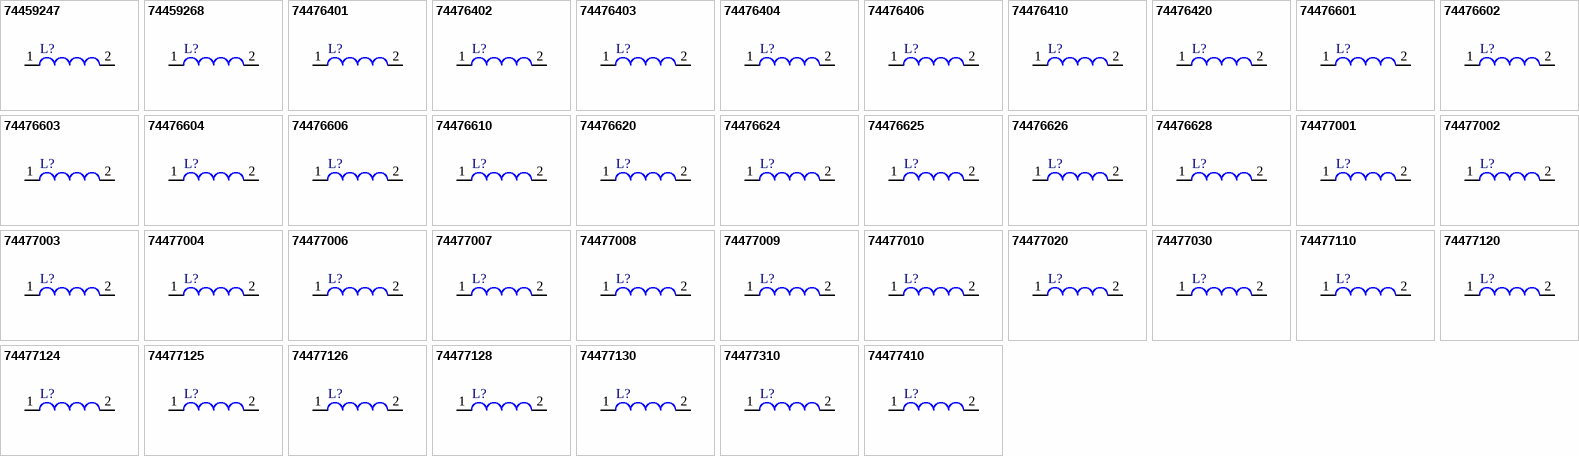
[diagram p4: symbols 74459247 to 74477410]

## 74459247
designator L?
SMD Shielded Power Inductor WE-PD3, L = 470 µH; Inductance: 470 µH; DatasheetVersion: ver 1, Oct-2004; PackageVersion: 2004; PackageReference: WE-PD3-X; PackageDescription: SMD Inductor, 2-Leads, Body 18.54 x 15.24 mm; ComponentLink1Description: Manufacturer URL; ComponentLink1URL: http://www.we-online.com; ComponentLink2Description: Datasheet; ComponentLink2URL: http://www.we-online.de/katalog/media/pdf/74459247.pdf
footprint WE-PD3-X (SMD Inductor, 2-Leads, Body 18.54x15.24x7.62 mm)
pins: 1, 2

## 74459268
designator L?
SMD Shielded Power Inductor WE-PD3, L = 680 µH; Inductance: 680 µH; DatasheetVersion: ver 1, Oct-2004; PackageVersion: 2004; PackageReference: WE-PD3-X; PackageDescription: SMD Inductor, 2-Leads, Body 18.54 x 15.24 mm; ComponentLink1Description: Manufacturer URL; ComponentLink1URL: http://www.we-online.com; ComponentLink2Description: Datasheet; ComponentLink2URL: http://www.we-online.de/katalog/media/pdf/74459268.pdf
footprint WE-PD3-X (SMD Inductor, 2-Leads, Body 18.54x15.24x7.62 mm)
pins: 1, 2

## 74476401
designator L?
SMD Wire Wound Inductor WE-GF, L = 1.00 µH; Inductance: 1.00 µH; DatasheetVersion: ver 4, Oct-2004; PackageVersion: 2004; PackageReference: WE-GF-M; PackageDescription: Molded Inductor, 2-Leads, Body 2.9 x 2.5 mm; ComponentLink1Description: Manufacturer URL; ComponentLink1URL: http://www.we-online.com; ComponentLink2Description: Datasheet; ComponentLink2URL: http://www.we-online.de/katalog/media/pdf/74476401.pdf
footprint WE-GF-M (Molded Inductor, 2-Leads, Body 2.9x2.5x2.4 mm)
pins: 1, 2

## 74476402
designator L?
SMD Wire Wound Inductor WE-GF, L = 2.20 µH; Inductance: 2.20 µH; DatasheetVersion: ver 4, Oct-2004; PackageVersion: 2004; PackageReference: WE-GF-M; PackageDescription: Molded Inductor, 2-Leads, Body 2.9 x 2.5 mm; ComponentLink1Description: Manufacturer URL; ComponentLink1URL: http://www.we-online.com; ComponentLink2Description: Datasheet; ComponentLink2URL: http://www.we-online.de/katalog/media/pdf/74476402.pdf
footprint WE-GF-M (Molded Inductor, 2-Leads, Body 2.9x2.5x2.4 mm)
pins: 1, 2

## 74476403
designator L?
SMD Wire Wound Inductor WE-GF, L = 3.30 µH; Inductance: 3.30 µH; DatasheetVersion: ver 4, Oct-2004; PackageVersion: 2004; PackageReference: WE-GF-M; PackageDescription: Molded Inductor, 2-Leads, Body 2.9 x 2.5 mm; ComponentLink1Description: Manufacturer URL; ComponentLink1URL: http://www.we-online.com; ComponentLink2Description: Datasheet; ComponentLink2URL: http://www.we-online.de/katalog/media/pdf/74476403.pdf
footprint WE-GF-M (Molded Inductor, 2-Leads, Body 2.9x2.5x2.4 mm)
pins: 1, 2

## 74476404
designator L?
SMD Wire Wound Inductor WE-GF, L = 4.70 µH; Inductance: 4.70 µH; DatasheetVersion: ver 4, Oct-2004; PackageVersion: 2004; PackageReference: WE-GF-M; PackageDescription: Molded Inductor, 2-Leads, Body 2.9 x 2.5 mm; ComponentLink1Description: Manufacturer URL; ComponentLink1URL: http://www.we-online.com; ComponentLink2Description: Datasheet; ComponentLink2URL: http://www.we-online.de/katalog/media/pdf/74476404.pdf
footprint WE-GF-M (Molded Inductor, 2-Leads, Body 2.9x2.5x2.4 mm)
pins: 1, 2

## 74476406
designator L?
SMD Wire Wound Inductor WE-GF, L = 6.80 µH; Inductance: 6.80 µH; DatasheetVersion: ver 4, Oct-2004; PackageVersion: 2004; PackageReference: WE-GF-M; PackageDescription: Molded Inductor, 2-Leads, Body 2.9 x 2.5 mm; ComponentLink1Description: Manufacturer URL; ComponentLink1URL: http://www.we-online.com; ComponentLink2Description: Datasheet; ComponentLink2URL: http://www.we-online.de/katalog/media/pdf/74476406.pdf
footprint WE-GF-M (Molded Inductor, 2-Leads, Body 2.9x2.5x2.4 mm)
pins: 1, 2

## 74476410
designator L?
SMD Wire Wound Inductor WE-GF, L = 10.00 µH; DatasheetVersion: ver 4, Oct-2004; PackageVersion: 2004; PackageReference: WE-GF-M; PackageDescription: Molded Inductor, 2-Leads, Body 2.9 x 2.5 mm; Inductance: 10.00 µH; ComponentLink1Description: Manufacturer URL; ComponentLink1URL: http://www.we-online.com; ComponentLink2Description: Datasheet; ComponentLink2URL: http://www.we-online.de/katalog/media/pdf/74476410.pdf
footprint WE-GF-M (Molded Inductor, 2-Leads, Body 2.9x2.5x2.4 mm)
pins: 1, 2

## 74476420
designator L?
SMD Wire Wound Inductor WE-GF, L = 100.00 µH; DatasheetVersion: ver 4, Oct-2004; PackageVersion: 2004; PackageReference: WE-GF-M; PackageDescription: Molded Inductor, 2-Leads, Body 2.9 x 2.5 mm; Inductance: 100.00 µH; ComponentLink1Description: Manufacturer URL; ComponentLink1URL: http://www.we-online.com; ComponentLink2Description: Datasheet; ComponentLink2URL: http://www.we-online.de/katalog/media/pdf/74476420.pdf
footprint WE-GF-M (Molded Inductor, 2-Leads, Body 2.9x2.5x2.4 mm)
pins: 1, 2

## 74476601
designator L?
SMD Wire Wound Inductor WE-GF, L = 1.00 µH; Inductance: 1.00 µH; DatasheetVersion: ver 4, Oct-2004; PackageVersion: 2004; PackageReference: WE-GF-L; PackageDescription: Molded Inductor, 2-Leads, Body 4.2 x 3.2 mm; ComponentLink1Description: Manufacturer URL; ComponentLink1URL: http://www.we-online.com; ComponentLink2Description: Datasheet; ComponentLink2URL: http://www.we-online.de/katalog/media/pdf/74476601.pdf
footprint WE-GF-L (Molded Inductor, 2-Leads, Body 4.2x3.2x3.6 mm)
pins: 1, 2

## 74476602
designator L?
SMD Wire Wound Inductor WE-GF, L = 2.20 µH; Inductance: 2.20 µH; DatasheetVersion: ver 4, Oct-2004; PackageVersion: 2004; PackageReference: WE-GF-L; PackageDescription: Molded Inductor, 2-Leads, Body 4.2 x 3.2 mm; ComponentLink1Description: Manufacturer URL; ComponentLink1URL: http://www.we-online.com; ComponentLink2Description: Datasheet; ComponentLink2URL: http://www.we-online.de/katalog/media/pdf/74476602.pdf
footprint WE-GF-L (Molded Inductor, 2-Leads, Body 4.2x3.2x3.6 mm)
pins: 1, 2

## 74476603
designator L?
SMD Wire Wound Inductor WE-GF, L = 3.30 µH; Inductance: 3.30 µH; DatasheetVersion: ver 4, Oct-2004; PackageVersion: 2004; PackageReference: WE-GF-L; PackageDescription: Molded Inductor, 2-Leads, Body 4.2 x 3.2 mm; ComponentLink1Description: Manufacturer URL; ComponentLink1URL: http://www.we-online.com; ComponentLink2Description: Datasheet; ComponentLink2URL: http://www.we-online.de/katalog/media/pdf/74476603.pdf
footprint WE-GF-L (Molded Inductor, 2-Leads, Body 4.2x3.2x3.6 mm)
pins: 1, 2

## 74476604
designator L?
SMD Wire Wound Inductor WE-GF, L = 4.70 µH; Inductance: 4.70 µH; DatasheetVersion: ver 4, Oct-2004; PackageVersion: 2004; PackageReference: WE-GF-L; PackageDescription: Molded Inductor, 2-Leads, Body 4.2 x 3.2 mm; ComponentLink1Description: Manufacturer URL; ComponentLink1URL: http://www.we-online.com; ComponentLink2Description: Datasheet; ComponentLink2URL: http://www.we-online.de/katalog/media/pdf/74476604.pdf
footprint WE-GF-L (Molded Inductor, 2-Leads, Body 4.2x3.2x3.6 mm)
pins: 1, 2

## 74476606
designator L?
SMD Wire Wound Inductor WE-GF, L = 6.80 µH; Inductance: 6.80 µH; DatasheetVersion: ver 4, Oct-2004; PackageVersion: 2004; PackageReference: WE-GF-L; PackageDescription: Molded Inductor, 2-Leads, Body 4.2 x 3.2 mm; ComponentLink1Description: Manufacturer URL; ComponentLink1URL: http://www.we-online.com; ComponentLink2Description: Datasheet; ComponentLink2URL: http://www.we-online.de/katalog/media/pdf/74476606.pdf
footprint WE-GF-L (Molded Inductor, 2-Leads, Body 4.2x3.2x3.6 mm)
pins: 1, 2

## 74476610
designator L?
SMD Wire Wound Inductor WE-GF, L = 10.0 µH; Inductance: 10.0 µH; DatasheetVersion: ver 4, Oct-2004; PackageVersion: 2004; PackageReference: WE-GF-L; PackageDescription: Molded Inductor, 2-Leads, Body 4.2 x 3.2 mm; ComponentLink1Description: Manufacturer URL; ComponentLink1URL: http://www.we-online.com; ComponentLink2Description: Datasheet; ComponentLink2URL: http://www.we-online.de/katalog/media/pdf/74476610.pdf
footprint WE-GF-L (Molded Inductor, 2-Leads, Body 4.2x3.2x3.6 mm)
pins: 1, 2

## 74476620
designator L?
SMD Wire Wound Inductor WE-GF, L = 100.0 µH; DatasheetVersion: ver 4, Oct-2004; PackageVersion: 2004; PackageReference: WE-GF-L; PackageDescription: Molded Inductor, 2-Leads, Body 4.2 x 3.2 mm; Inductance: 100.0 µH; ComponentLink1Description: Manufacturer URL; ComponentLink1URL: http://www.we-online.com; ComponentLink2Description: Datasheet; ComponentLink2URL: http://www.we-online.de/katalog/media/pdf/74476620.pdf
footprint WE-GF-L (Molded Inductor, 2-Leads, Body 4.2x3.2x3.6 mm)
pins: 1, 2

## 74476624
designator L?
SMD Wire Wound Inductor WE-GF, L = 470.0 µH; DatasheetVersion: ver 4, Oct-2004; PackageVersion: 2004; PackageReference: WE-GF-L; PackageDescription: Molded Inductor, 2-Leads, Body 4.2 x 3.2 mm; Inductance: 470.0 µH; ComponentLink1Description: Manufacturer URL; ComponentLink1URL: http://www.we-online.com; ComponentLink2Description: Datasheet; ComponentLink2URL: http://www.we-online.de/katalog/media/pdf/74476624.pdf
footprint WE-GF-L (Molded Inductor, 2-Leads, Body 4.2x3.2x3.6 mm)
pins: 1, 2

## 74476625
designator L?
SMD Wire Wound Inductor WE-GF, L = 560.0 µH; DatasheetVersion: ver 4, Oct-2004; PackageVersion: 2004; PackageReference: WE-GF-L; PackageDescription: Molded Inductor, 2-Leads, Body 4.2 x 3.2 mm; Inductance: 560.0 µH; ComponentLink1Description: Manufacturer URL; ComponentLink1URL: http://www.we-online.com; ComponentLink2Description: Datasheet; ComponentLink2URL: http://www.we-online.de/katalog/media/pdf/74476625.pdf
footprint WE-GF-L (Molded Inductor, 2-Leads, Body 4.2x3.2x3.6 mm)
pins: 1, 2

## 74476626
designator L?
SMD Wire Wound Inductor WE-GF, L = 680.0 µH; DatasheetVersion: ver 4, Oct-2004; PackageVersion: 2004; PackageReference: WE-GF-L; PackageDescription: Molded Inductor, 2-Leads, Body 4.2 x 3.2 mm; Inductance: 680.0 µH; ComponentLink1Description: Manufacturer URL; ComponentLink1URL: http://www.we-online.com; ComponentLink2Description: Datasheet; ComponentLink2URL: http://www.we-online.de/katalog/media/pdf/74476626.pdf
footprint WE-GF-L (Molded Inductor, 2-Leads, Body 4.2x3.2x3.6 mm)
pins: 1, 2

## 74476628
designator L?
SMD Wire Wound Inductor WE-GF, L = 820.0 µH; DatasheetVersion: ver 4, Oct-2004; PackageVersion: 2004; PackageReference: WE-GF-L; PackageDescription: Molded Inductor, 2-Leads, Body 4.2 x 3.2 mm; Inductance: 820.0 µH; ComponentLink1Description: Manufacturer URL; ComponentLink1URL: http://www.we-online.com; ComponentLink2Description: Datasheet; ComponentLink2URL: http://www.we-online.de/katalog/media/pdf/74476628.pdf
footprint WE-GF-L (Molded Inductor, 2-Leads, Body 4.2x3.2x3.6 mm)
pins: 1, 2

## 74477001
designator L?
SMD-Shielded Power Inductor WE-PD, L = 1.20 µH; Inductance: 1.20 µH; DatasheetVersion: ver 5, Oct-2004; PackageVersion: 2004; PackageReference: WE-PD-XL; PackageDescription: SMD Inductor, 2-Leads, Body 12.0 x 12.0 mm; ComponentLink1Description: Manufacturer URL; ComponentLink1URL: http://www.we-online.com; ComponentLink2Description: Datasheet; ComponentLink2URL: http://www.we-online.de/katalog/media/pdf/74477001.pdf
footprint WE-PD-XL (SMD Inductor, 2-Leads, Body 12.0x12.0x8.0 mm)
pins: 1, 2

## 74477002
designator L?
SMD-Shielded Power Inductor WE-PD, L = 2.40 µH; Inductance: 2.40 µH; DatasheetVersion: ver 5, Oct-2004; PackageVersion: 2004; PackageReference: WE-PD-XL; PackageDescription: SMD Inductor, 2-Leads, Body 12.0 x 12.0 mm; ComponentLink1Description: Manufacturer URL; ComponentLink1URL: http://www.we-online.com; ComponentLink2Description: Datasheet; ComponentLink2URL: http://www.we-online.de/katalog/media/pdf/74477002.pdf
footprint WE-PD-XL (SMD Inductor, 2-Leads, Body 12.0x12.0x8.0 mm)
pins: 1, 2

## 74477003
designator L?
SMD-Shielded Power Inductor WE-PD, L = 3.50 µH; Inductance: 3.50 µH; DatasheetVersion: ver 5, Oct-2004; PackageVersion: 2004; PackageReference: WE-PD-XL; PackageDescription: SMD Inductor, 2-Leads, Body 12.0 x 12.0 mm; ComponentLink1Description: Manufacturer URL; ComponentLink1URL: http://www.we-online.com; ComponentLink2Description: Datasheet; ComponentLink2URL: http://www.we-online.de/katalog/media/pdf/74477003.pdf
footprint WE-PD-XL (SMD Inductor, 2-Leads, Body 12.0x12.0x8.0 mm)
pins: 1, 2

## 74477004
designator L?
SMD-Shielded Power Inductor WE-PD, L = 4.70 µH; Inductance: 4.70 µH; DatasheetVersion: ver 5, Oct-2004; PackageVersion: 2004; PackageReference: WE-PD-XL; PackageDescription: SMD Inductor, 2-Leads, Body 12.0 x 12.0 mm; ComponentLink1Description: Manufacturer URL; ComponentLink1URL: http://www.we-online.com; ComponentLink2Description: Datasheet; ComponentLink2URL: http://www.we-online.de/katalog/media/pdf/74477004.pdf
footprint WE-PD-XL (SMD Inductor, 2-Leads, Body 12.0x12.0x8.0 mm)
pins: 1, 2

## 74477006
designator L?
SMD-Shielded Power Inductor WE-PD, L = 6.10 µH; Inductance: 6.10 µH; DatasheetVersion: ver 5, Oct-2004; PackageVersion: 2004; PackageReference: WE-PD-XL; PackageDescription: SMD Inductor, 2-Leads, Body 12.0 x 12.0 mm; ComponentLink1Description: Manufacturer URL; ComponentLink1URL: http://www.we-online.com; ComponentLink2Description: Datasheet; ComponentLink2URL: http://www.we-online.de/katalog/media/pdf/74477006.pdf
footprint WE-PD-XL (SMD Inductor, 2-Leads, Body 12.0x12.0x8.0 mm)
pins: 1, 2

## 74477007
designator L?
SMD-Shielded Power Inductor WE-PD, L = 7.60 µH; Inductance: 7.60 µH; DatasheetVersion: ver 5, Oct-2004; PackageVersion: 2004; PackageReference: WE-PD-XL; PackageDescription: SMD Inductor, 2-Leads, Body 12.0 x 12.0 mm; ComponentLink1Description: Manufacturer URL; ComponentLink1URL: http://www.we-online.com; ComponentLink2Description: Datasheet; ComponentLink2URL: http://www.we-online.de/katalog/media/pdf/74477007.pdf
footprint WE-PD-XL (SMD Inductor, 2-Leads, Body 12.0x12.0x8.0 mm)
pins: 1, 2

## 74477008
designator L?
SMD-Shielded Power Inductor WE-PD, L = 0.75 µH; Inductance: 0.75 µH; DatasheetVersion: ver 5, Oct-2004; PackageVersion: 2004; PackageReference: WE-PD-XL; PackageDescription: SMD Inductor, 2-Leads, Body 12.0 x 12.0 mm; ComponentLink1Description: Manufacturer URL; ComponentLink1URL: http://www.we-online.com; ComponentLink2Description: Datasheet; ComponentLink2URL: http://www.we-online.de/katalog/media/pdf/74477008.pdf
footprint WE-PD-XL (SMD Inductor, 2-Leads, Body 12.0x12.0x8.0 mm)
pins: 1, 2

## 74477009
designator L?
SMD-Shielded Power Inductor WE-PD, L = 0.47 µH; Inductance: 0.47 µH; DatasheetVersion: ver 5, Oct-2004; PackageVersion: 2004; PackageReference: WE-PD-XL; PackageDescription: SMD Inductor, 2-Leads, Body 12.0 x 12.0 mm; ComponentLink1Description: Manufacturer URL; ComponentLink1URL: http://www.we-online.com; ComponentLink2Description: Datasheet; ComponentLink2URL: http://www.we-online.de/katalog/media/pdf/74477009.pdf
footprint WE-PD-XL (SMD Inductor, 2-Leads, Body 12.0x12.0x8.0 mm)
pins: 1, 2

## 74477010
designator L?
SMD-Shielded Power Inductor WE-PD, L = 10.0 µH; Inductance: 10.0 µH; DatasheetVersion: ver 5, Oct-2004; PackageVersion: 2004; PackageReference: WE-PD-XL; PackageDescription: SMD Inductor, 2-Leads, Body 12.0 x 12.0 mm; ComponentLink1Description: Manufacturer URL; ComponentLink1URL: http://www.we-online.com; ComponentLink2Description: Datasheet; ComponentLink2URL: http://www.we-online.de/katalog/media/pdf/74477010.pdf
footprint WE-PD-XL (SMD Inductor, 2-Leads, Body 12.0x12.0x8.0 mm)
pins: 1, 2

## 74477020
designator L?
SMD-Shielded Power Inductor WE-PD, L = 100 µH; Inductance: 100 µH; DatasheetVersion: ver 5, Oct-2004; PackageVersion: 2004; PackageReference: WE-PD-XL; PackageDescription: SMD Inductor, 2-Leads, Body 12.0 x 12.0 mm; ComponentLink1Description: Manufacturer URL; ComponentLink1URL: http://www.we-online.com; ComponentLink2Description: Datasheet; ComponentLink2URL: http://www.we-online.de/katalog/media/pdf/74477020.pdf
footprint WE-PD-XL (SMD Inductor, 2-Leads, Body 12.0x12.0x8.0 mm)
pins: 1, 2